# Altium footprint library CON1X3_1.25mm.PcbLib: 1 footprints
Each footprint in its own frame and in the unit in brackets; x right, y up, seen from the top. Pads: shape width x height; smd on the part's side, far side on the other; paste and mask are expansions set on the pad; w line width, h text height; cw(c..) or ccw(c..) is an arc to the next point about the centre after c.
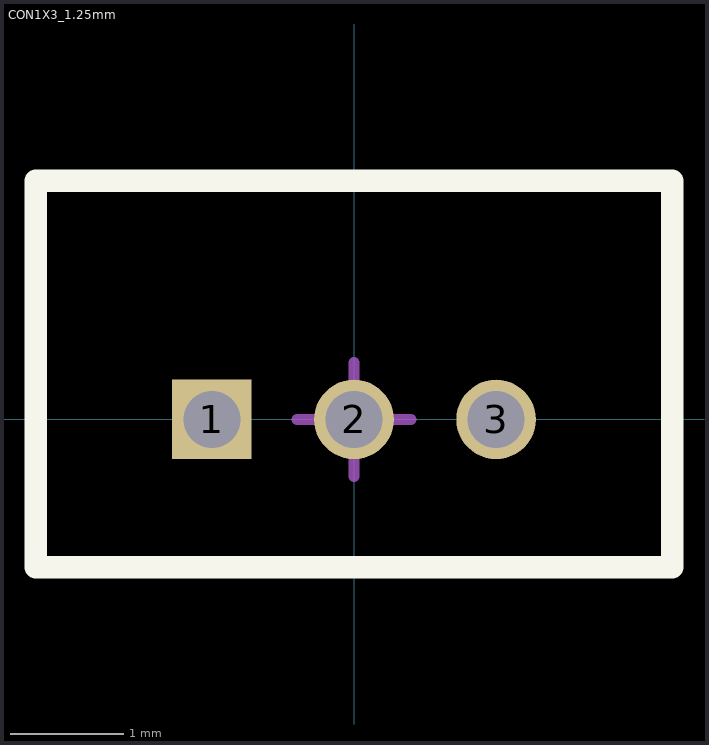
[diagram p0: the footprint, top view; thin cyan lines are the x and y axes]

## CON1X3_1.25mm [mm]
height 4.2
pads (3):
  rect 0.7x0.7 hole 0.5: 1(-1.25,0)
  round 0.7 hole 0.5: 2(0,0) 3(1.25,0)
Top Overlay:
  lines w0.2: -2.8,-1.3 -2.8,2.1 2.8,2.1 2.8,-1.3 -2.5,-1.3 -2.8,-1.3
Mechanical 15:
  lines w0.1: -0.5,0 0.5,0 ; 0,-0.5 0,0.5 ; -2.8,-1.3 -2.8,2.1 2.8,2.1 2.8,-1.3 -2.8,-1.3
3D body: height 4.3, standoff -2.2, extent -2.75,-1.2 2.75,2